# Altium footprint library eUSR_PcbLibrary.PcbLib: 7 footprints
Each footprint in its own frame and in the unit in brackets; x right, y up, seen from the top. Pads: shape width x height; smd on the part's side, far side on the other; paste and mask are expansions set on the pad; w line width, h text height; cw(c..) or ccw(c..) is an arc to the next point about the centre after c.
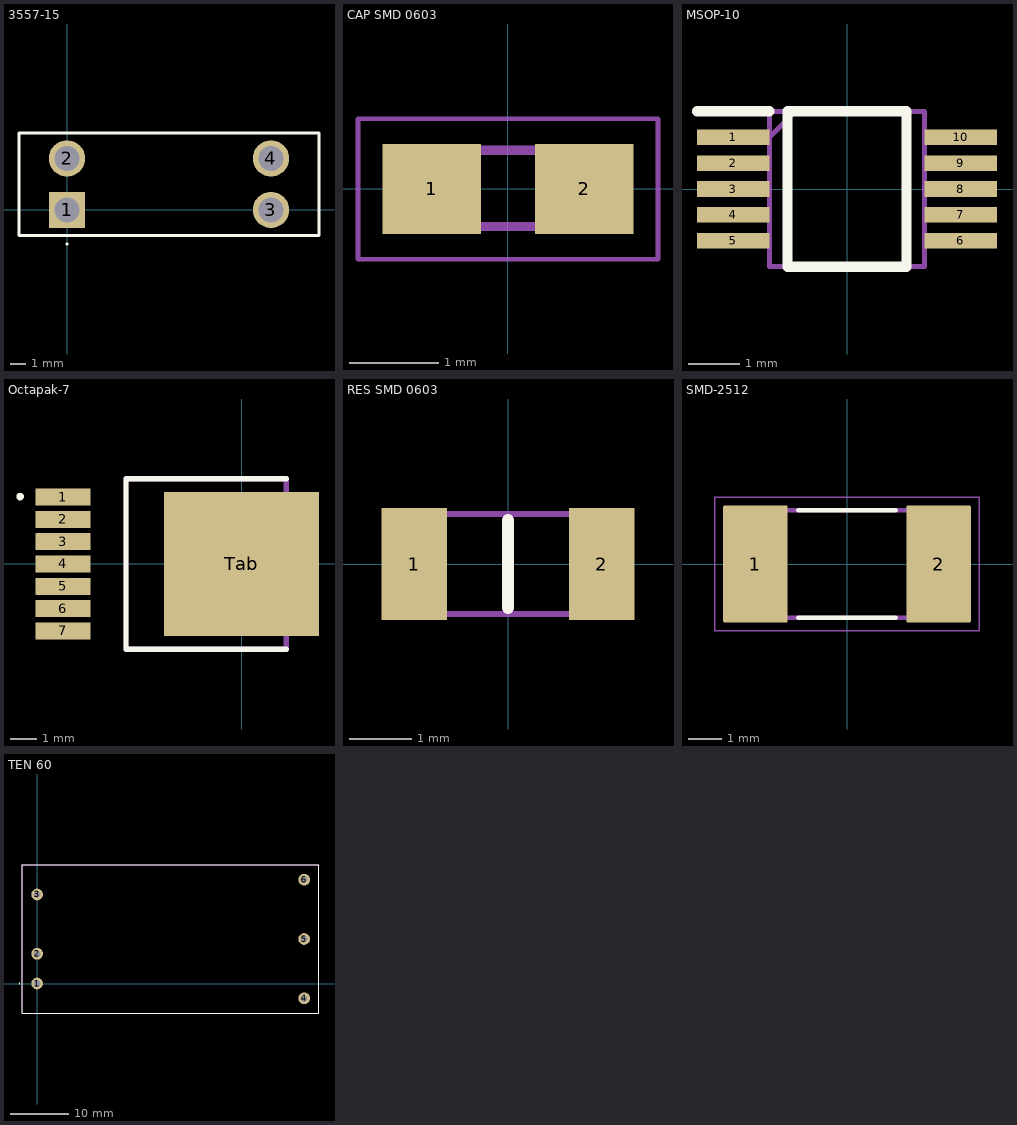
[diagram p0: the footprints below, top view; thin cyan lines are the x and y axes]

## 3557-15 [mm]
pads (4):
  rect 2.4x2.4 hole 1.65: 1(0,0)
  round 2.4 hole 1.65: 2(0,3.4) 3(13.47,0) 4(13.47,3.4)
Top Overlay:
  lines w0.1: 0,-2.3 ccw(c0,-2.25) 0,-2.2 ccw(c0,-2.25) 0,-2.3
  lines w0.2: -3.17,-1.7 -3.17,5.065 16.64,5.065 16.64,-1.7 -3.17,-1.7
Mechanical 15:
  lines w0.1: -3.17,-1.665 -3.17,5.065 16.64,5.065 16.64,-1.665 -3.17,-1.665
3D body "3557-15.stp": height 7.44, standoff -2.72, extent -3.075,-1.689 16.737,5.042

## CAP SMD 0603 [mm]
pads (2):
  rect 1.1x1 smd: 1(-0.85,0) 2(0.85,0)
Mechanical 13:
  region: 0.83,-0.471 0.331,-0.471 0.331,0.48 0.83,0.48
  region: -0.338,-0.472 -0.841,-0.472 -0.841,0.48 -0.338,0.48
  lines w0.102: -0.356,-0.419 0.356,-0.419 ; -0.356,0.432 0.356,0.432
Mechanical 15:
  lines w0.051: -1.673,-0.783 -1.673,0.783 1.673,0.783 1.673,-0.783 -1.673,-0.783
3D body "step_temp.STEP": height 0.9, standoff 0, extent -0.8,-0.4 0.8,0.4

## MSOP-10 [mm]
pads (10):
  rect 1.4x0.3 smd: 1(-2.2,1) 2(-2.2,0.5) 3(-2.2,0) 4(-2.2,-0.5) 5(-2.2,-1) 6(2.2,-1) 7(2.2,-0.5) 8(2.2,0) 9(2.2,0.5) 10(2.2,1)
Top Overlay:
  lines w0.2: -2.9,1.5 -1.5,1.5 ; -1.15,-1.5 -1.15,1.5 1.15,1.5 1.15,-1.5 -1.15,-1.5
Mechanical 15:
  lines w0.1: -1.5,1 -1,1.5 ; -1.5,-1.5 -1.5,1.5 1.5,1.5 1.5,-1.5 -1.5,-1.5
3D body "INA226AIDGSR.stp": height 1.04, standoff -0.06, extent -2.463,-1.5 2.463,1.5

## Octapak-7 [mm]
pads (8):
  rect 2.1x0.65 smd: 1(-6.8,2.55) 2(-6.8,1.7) 3(-6.8,0.85) 4(-6.8,0) 5(-6.8,-0.85) 6(-6.8,-1.7) 7(-6.8,-2.55)
  rect 5.9x5.5 smd: Tab(0,0)
Top Overlay:
  circle w0.2: c-8.436,2.568 r0.042
  lines w0.2: 1.7,-3.25 -4.4,-3.25 -4.4,3.25 1.7,3.25
Mechanical 13:
  lines w0.2: -4.4,-3.25 -4.4,3.25 1.7,3.25 1.7,-3.25 -4.4,-3.25
3D body "VN7007ALHTR.stp": height 2.52, standoff 0.05, extent -7.734,-3.251 3.175,3.251

## RES SMD 0603 [mm]
pads (2):
  rect 1.05x1.8 smd: 1(-1.5,0) 2(1.5,0)
Top Overlay:
  lines w0.2: 0,-0.7 0,0.7
Mechanical 15:
  lines w0.1: -1.575,-0.8 1.575,-0.8 1.575,0.8 -1.575,0.8 -1.575,-0.8
3D body "CRCW120610R0FKEBC.stp": height 0.55, standoff 0, extent -1.597,-0.808 1.603,0.792

## SMD-2512 [mm]
pads (2):
  rrect3% 1.9x3.45 smd: 1(-2.71,0) 2(2.71,0)
Top Overlay:
  lines w0.127: -1.44,-1.59 1.44,-1.59 ; -1.44,1.59 1.44,1.59
Mechanical 13:
  lines w0.127: -3.175,-1.59 -3.175,1.59 3.175,1.59 3.175,-1.59 -3.175,-1.59
Mechanical 15:
  lines w0.05: -3.91,-1.975 -3.91,1.975 3.91,1.975 3.91,-1.975 -3.91,-1.975
3D body "step_temp.STEP": height 0.89, standoff 0, extent -3.175,-1.587 3.175,1.588

## TEN 60 [mm]
pads (6):
  round 2 hole 1.2: 1(0,0) 2(0,5.08) 3(0,15.24) 4(45.72,-2.54) 5(45.72,7.62) 6(45.72,17.78)
Top Overlay:
  lines w0.1: -3.1,0 cw(c-3.05,0) -3,0 cw(c-3.05,0) -3.1,0
  lines w0.2: -2.54,-5.08 48.26,-5.08 48.26,20.32 -2.54,20.32 -2.54,-5.08
Mechanical 15:
  lines w0.1: -2.54,-5.08 48.26,-5.08 48.26,20.32 -2.54,20.32 -2.54,-5.08
3D body "TEN_60-2412N.stp": height 10.2, standoff -5.6, extent -2.576,-5.132 48.224,20.268